# Altium footprint library connector.PcbLib: 49 footprints (part 2 of 4)
Each footprint in its own frame and in the unit in brackets; x right, y up, seen from the top. Pads: shape width x height; smd on the part's side, far side on the other; paste and mask are expansions set on the pad; w line width, h text height; cw(c..) or ccw(c..) is an arc to the next point about the centre after c.
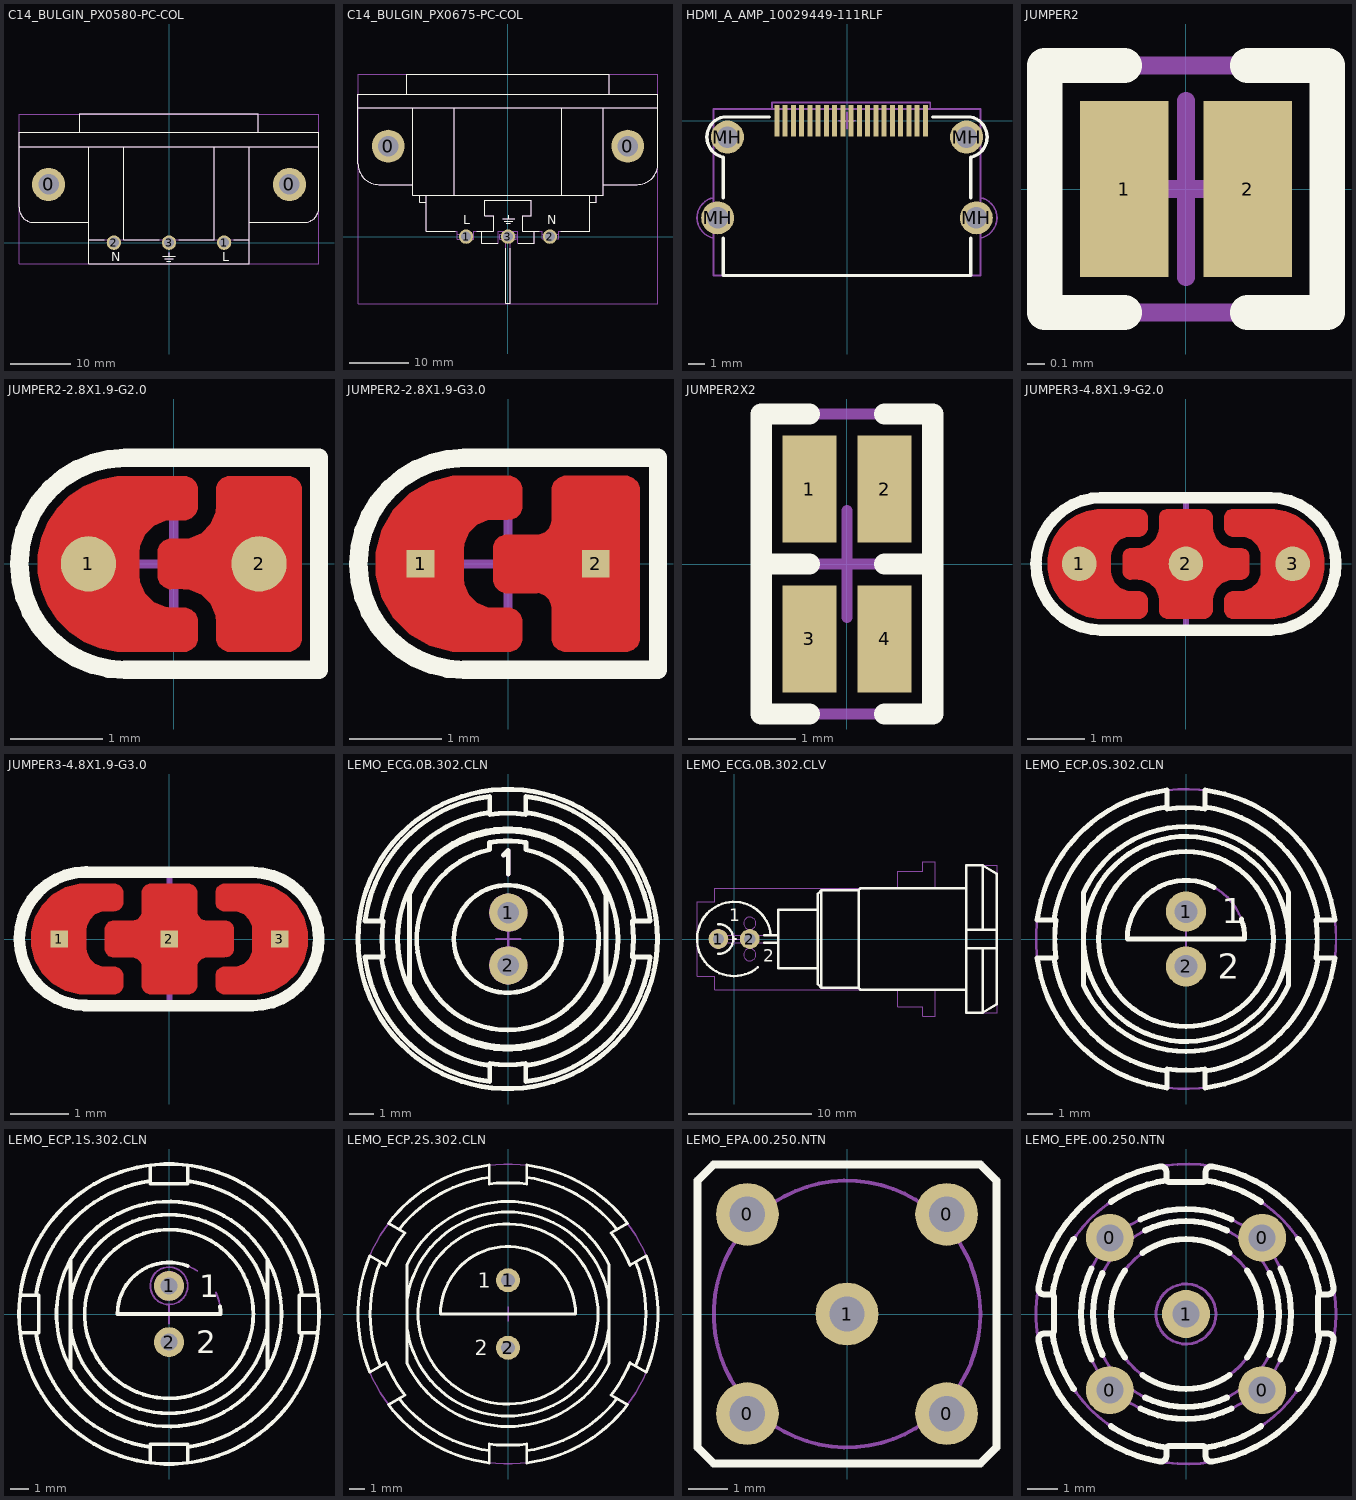
[diagram p1: the footprints below, top view; thin cyan lines are the x and y axes]

## C14_BULGIN_PX0580-PC-COL [mm] "10A 250Vac PC Flange Rear Mount Inlet IEC Connector"
height 32.1
pads (5):
  round 5.5 hole 3.4: 0(-20,9.65) 0(20,9.65)
  round 2.4 hole 1.7: 1(9.14,0) 2(-9.14,0) 3(0,0)
Top Overlay:
  lines w0.2: -24.9,15.95 24.9,15.95 ; -14.785,18.35 -14.785,21.35 14.785,21.35 14.785,18.35 ; -13.3,0.45 -10.727,0.45 ; -13.3,3.35 -22.4,3.35 cw(c-22.4,5.85) -24.9,5.85 -24.9,18.35 24.9,18.35 24.9,5.85 cw(c22.4,5.85) 22.4,3.35 13.3,3.35 ; -13.3,15.95 -13.3,-3.55 13.3,-3.55 13.3,15.95 ; -7.553,0.45 -1.587,0.45 ; -7.539,0.45 -7.539,15.95 ; -1,-2.257 1,-2.257 ; -0.7,-2.657 0.7,-2.657 ; -0.4,-3.057 0.3,-3.057 ; 0,-2.257 0,-1.657 ; 1.587,0.45 7.553,0.45 ; 7.539,0.45 7.539,15.95 ; 10.727,0.45 13.3,0.45
  text "N" at -9.602,-3.075 h1.5
  text "L" at 8.843,-3.075 h1.5
Mechanical 1:
  circle w0.1: c20,9.65 r1.7
  circle w0.1: c-20,9.65 r1.7
  lines w0.1: -24.9,15.95 24.9,15.95 ; -14.785,18.35 -14.785,21.35 14.785,21.35 14.785,18.35 ; -13.3,0.45 13.3,0.45 ; -13.3,3.35 -22.4,3.35 cw(c-22.4,5.85) -24.9,5.85 -24.9,18.35 24.9,18.35 24.9,5.85 cw(c22.4,5.85) 22.4,3.35 13.3,3.35 ; -13.3,15.95 -13.3,-3.55 13.3,-3.55 13.3,15.95 ; -7.539,0.45 -7.539,15.95 ; -1,-2.257 1,-2.257 ; -0.7,-2.657 0.7,-2.657 ; -0.4,-3.057 0.3,-3.057 ; 0,-2.257 0,-1.657 ; 7.539,0.45 7.539,15.95
  text "L" at 8.843,-3.075 h1.5
  text "N" at -9.602,-3.075 h1.5
Mechanical 15:
  lines w0.1: -0.5,0 0.5,0 ; 0,-0.5 0,0.5 ; -24.9,-3.55 24.9,-3.55 24.9,21.35 -24.9,21.35 -24.9,-3.55
3D body "BULGIN_PX0580-PC-COL.stp": height 27.8, standoff -3.6, extent -24.9,-3.55 24.9,21.35

## C14_BULGIN_PX0675-PC-COL [mm] "10A 250Vac PC Flange Rear Mount Outlet IEC Connector"
height 30.4
pads (5):
  round 5.5 hole 3.4: 0(-20,15.1) 0(20,15.1)
  round 2.4 hole 1.7: 1(-7,0) 2(7,0) 3(0,0)
Top Overlay:
  lines w0.2: -25.05,21.5 25.05,21.5 ; -16.975,23.8 -16.95,23.825 -16.95,27.1 16.95,27.1 16.95,23.8 ; -15.9,8.7 -21.55,8.7 cw(c-21.55,12.2) -25.05,12.2 -25.05,23.8 25.05,23.8 25.05,12.2 cw(c21.55,12.2) 21.55,8.7 15.9,8.7 ; -15.9,21.5 -15.9,6.9 15.9,6.9 15.9,21.5 ; -14.775,6.9 -14.775,5.77 -13.65,5.77 ; -13.65,6.9 -13.65,0.9 -8.786,0.9 ; -5.214,0.9 -4.4,0.9 ; -1.67,-1.1 -4.4,-1.1 -4.4,0.9 ; -0.9,3 1.1,3 ; -0.6,2.6 0.8,2.6 ; -0.4,-1.96 -0.4,-11.1 0.4,-11.1 0.4,-1.96 ; -0.3,2.2 0.4,2.2 ; 0.1,3 0.1,3.6 ; 1.67,-1.1 4.4,-1.1 4.4,0.9 ; 5.214,0.9 4.4,0.9 ; 8.786,0.9 13.65,0.9 13.65,6.9 ; 9,6.9 9,21.5 ; 13.65,5.77 14.775,5.77 14.775,6.9 ; -4.4,0.9 -2.5,0.9 -2.5,3.5 -3.9,3.5 -3.9,6.1 3.9,6.1 3.9,3.5 2.5,3.5 2.5,0.9 4.4,0.9 ; -9,6.9 -9,21.5 -9,6.9
  text "L" at -7.47,2.055 h1.5
  text "N" at 6.53,2.055 h1.5
Mechanical 1:
  circle w0.1: c-20,15.1 r1.7
  circle w0.1: c20,15.1 r1.7
  lines w0.1: -25.05,21.5 25.05,21.5 ; -16.95,23.8 -16.95,27.1 16.95,27.1 16.95,23.8 ; -15.9,8.7 -21.55,8.7 cw(c-21.55,12.2) -25.05,12.2 -25.05,23.8 25.05,23.8 25.05,12.2 cw(c21.55,12.2) 21.55,8.7 15.9,8.7 ; -15.9,21.5 -15.9,6.9 15.9,6.9 15.9,21.5 ; -14.775,6.9 -14.775,5.77 -13.65,5.77 ; -13.65,6.9 -13.65,0.9 -8.5,0.9 -8.5,-0.4 -5.7,-0.4 -5.7,0.9 -4.4,0.9 ; -8.5,0.4 -5.7,0.4 ; -0.9,3 1.1,3 ; -0.6,2.6 0.8,2.6 ; -0.4,-0.4 -0.4,-11.1 0.4,-11.1 0.4,-0.4 ; -0.3,2.2 0.4,2.2 ; 0.1,3 0.1,3.6 ; 5.7,0.4 8.5,0.4 ; 9,6.9 9,21.5 ; 13.65,5.77 14.775,5.77 14.775,6.9 ; 13.65,6.9 13.65,0.9 8.5,0.9 8.5,-0.373 5.7,-0.373 5.7,0.9 4.4,0.9 ; -4.4,0.9 -4.4,-1.1 -1.6,-1.1 -1.6,0.9 1.6,0.9 1.6,-1.1 4.4,-1.1 4.4,0.9 ; -4.4,0.9 -2.5,0.9 -2.5,3.5 -3.9,3.5 -3.9,6.1 3.9,6.1 3.9,3.5 2.5,3.5 2.5,0.9 4.4,0.9 ; -9,6.9 -9,21.5 -9,6.9 ; -1.4,-0.4 1.4,-0.4 1.4,0.4 -1.4,0.4 -1.4,-0.4
  text "L" at -7.47,2.055 h1.5
  text "N" at 6.53,2.055 h1.5
Mechanical 15:
  lines w0.1: -0.5,0 0.5,0 ; 0,-0.5 0,0.5 ; -25.05,-11.2 -25.05,27.1 25.05,27.1 25.05,-11.2 -25.05,-11.2
3D body "BULGIN_PX0675-PC-COL.stp": height 30.4, standoff -3.6, extent -25.05,-11.2 25.05,27.1

## HDMI_A_AMP_10029449-111RLF [mm] "HDMI 1.4, Amphenol"
pads (23):
  rect 0.3x1.9 smd mask+0.102: 1(4.75,0) 2(4.25,0) 3(3.75,0) 4(3.25,0) 5(2.75,0) 6(2.25,0) 7(1.75,0) 8(1.25,0) 9(0.75,0) 10(0.25,0) 11(-0.25,0) 12(-0.75,0) 13(-1.25,0) 14(-1.75,0) 15(-2.25,0) 16(-2.75,0) 17(-3.25,0) 18(-3.75,0) 19(-4.25,0)
  round 2 hole 1.3 mask+0.102: MH(-7.85,-5.9) MH(-7.25,-1) MH(7.25,-1) MH(7.85,-5.9)
Top Overlay:
  lines w0.2: -7.505,-2.224 cw(c-7.25,-1) -7.505,0.224 -4.7,0.224 ; -7.5,-7.125 -7.5,-9.4 7.5,-9.4 7.5,-7.125 ; -7.5,-4.675 -7.5,-2.224 ; 5.2,0.224 7.505,0.224 cw(c7.25,-1) 7.505,-2.224 ; 7.5,-4.675 7.5,-2.224
Mechanical 1:
  lines w0.1: -8.1,-9.4 8.1,-9.4 8.1,0.7 -8.1,0.7 -8.1,-9.4
Mechanical 15:
  lines w0.1: -8.1,-7.125 cw(c-7.85,-5.9) -8.1,-4.675 -8.1,-1.925 ; -8.1,-7.122 -8.1,-9.4 8.1,-9.4 8.1,-7.122 ; -8.1,-0.083 -8.1,0.7 -4.55,0.7 -4.55,1.1 5.05,1.1 5.05,0.7 8.1,0.7 8.1,-0.083 ; -8.097,-1.919 cw(c-7.25,-1) -8.097,-0.081 ; -0.5,0 0.5,0 ; 0,-0.5 0,0.5 ; 8.097,-1.919 ccw(c7.25,-1) 8.097,-0.081 ; 8.1,-7.125 ccw(c7.85,-5.9) 8.1,-4.675 8.1,-1.925
3D body "10029449-111RLF v1.step": height 6.28, standoff -1.86, extent -8.1,-9.4 8.1,0.7

## JUMPER2 [mm]
pads (2):
  rect 0.5x1 smd: 1(-0.35,0) 2(0.35,0)
Top Overlay:
  lines w0.2: -0.35,-0.7 -0.8,-0.7 -0.8,0.7 -0.35,0.7 ; 0.35,-0.7 0.8,-0.7 0.8,0.7 0.35,0.7
Mechanical 1:
  lines w0.1: -0.796,-0.7 0.801,-0.7 0.801,0.7 -0.796,0.7 -0.796,-0.7
Mechanical 15:
  lines w0.1: -0.5,0 0.5,0 ; 0,-0.5 0,0.5 ; -0.796,-0.7 -0.796,0.7 0.801,0.7 0.801,-0.7 -0.796,-0.7

## JUMPER2-2.8X1.9-G2.0 [mm] "Pads Solder Jumper for Bound by Solder Drop - Overall dimensions 4.8mmx1.9mm, Gap 0.2mm"
pads (2):
  round 0.6 smd paste-0.3: 1(-0.925,0) 2(0.925,0)
Top Layer:
  region: -0.025,-0.273 0.102,-0.273 0.172,-0.28 0.301,-0.333 0.4,-0.433 0.454,-0.562 0.461,-0.632 0.461,-0.8 0.461,-0.83 0.484,-0.885 0.526,-0.927 0.581,-0.95 0.611,-0.95 1.239,-0.95 1.269,-0.95 1.324,-0.927 1.366,-0.885 1.389,-0.83 1.389,-0.8 1.389,0.8 1.389,0.83 1.366,0.885 1.324,0.927 1.269,0.95 1.239,0.95 0.611,0.95 0.581,0.95 0.526,0.927 0.484,0.885 0.461,0.83 0.461,0.8 0.461,0.632 0.454,0.562 0.4,0.433 0.301,0.333 0.172,0.28 0.102,0.273 -0.025,0.273 -0.055,0.273 -0.11,0.25 -0.152,0.208 -0.175,0.153 -0.175,0.123 -0.175,-0.123 -0.175,-0.153 -0.152,-0.208 -0.11,-0.25 -0.055,-0.273
  region: -0.375,-0.123 -0.375,0.123 -0.368,0.191 -0.316,0.317 -0.219,0.414 -0.093,0.466 -0.025,0.473 0.102,0.473 0.134,0.473 0.192,0.497 0.237,0.542 0.261,0.6 0.261,0.632 0.261,0.8 0.261,0.83 0.238,0.885 0.196,0.927 0.141,0.95 0.111,0.95 -0.525,0.95 -0.619,0.95 -0.802,0.913 -0.975,0.842 -1.131,0.738 -1.263,0.606 -1.367,0.45 -1.438,0.277 -1.475,0.094 -1.475,0 -1.475,-0.094 -1.438,-0.277 -1.367,-0.45 -1.263,-0.606 -1.131,-0.738 -0.975,-0.842 -0.802,-0.913 -0.619,-0.95 -0.525,-0.95 0.111,-0.95 0.141,-0.95 0.196,-0.927 0.238,-0.885 0.261,-0.83 0.261,-0.8 0.261,-0.632 0.261,-0.6 0.237,-0.542 0.192,-0.497 0.134,-0.473 0.102,-0.473 -0.025,-0.473 -0.093,-0.466 -0.219,-0.414 -0.316,-0.317 -0.368,-0.191
Top Overlay:
  lines w0.2: -0.525,-1.15 cw(c-0.525,0) -0.525,1.15 1.575,1.15 1.575,-1.15 -0.525,-1.15
Mechanical 1:
  lines w0.1: -0.528,-1.152 cw(c-0.528,-0.002) -0.528,1.148 1.572,1.148 1.572,-1.152 -0.528,-1.152
Mechanical 15:
  lines w0.1: -0.5,0 0.5,0 ; 0,-0.5 0,0.5 ; -0.525,-1.151 cw(c-0.525,-0.001) -0.525,1.149 1.575,1.149 1.575,-1.151 -0.525,-1.151

## JUMPER2-2.8X1.9-G3.0 [mm] "Pads for Bound by Solder Drop - Gap 0.3mm"
pads (2):
  rect 0.3x0.3 smd paste-0.15: 1(-0.95,0) 2(0.95,0)
Top Layer:
  region: -0.481,-0.954 -0.607,-0.954 -0.849,-0.889 -1.067,-0.763 -1.244,-0.586 -1.37,-0.368 -1.435,-0.126 -1.435,0.126 -1.37,0.368 -1.244,0.586 -1.067,0.763 -0.849,0.889 -0.607,0.954 -0.481,0.954 -0.004,0.954 0.028,0.954 0.086,0.93 0.131,0.885 0.155,0.827 0.155,0.795 0.155,0.636 0.155,0.604 0.131,0.546 0.086,0.501 0.028,0.477 -0.004,0.477 -0.163,0.477 -0.225,0.471 -0.34,0.423 -0.427,0.336 -0.475,0.221 -0.481,0.159 -0.481,-0.159 -0.475,-0.221 -0.427,-0.336 -0.34,-0.423 -0.225,-0.471 -0.163,-0.477 -0.004,-0.477 0.028,-0.477 0.086,-0.501 0.131,-0.546 0.155,-0.604 0.155,-0.636 0.155,-0.795 0.155,-0.827 0.131,-0.885 0.086,-0.93 0.028,-0.954 -0.004,-0.954
  region: 0.473,-0.795 0.473,-0.477 0.47,-0.446 0.446,-0.389 0.402,-0.345 0.345,-0.321 0.314,-0.318 -0.004,-0.318 -0.036,-0.318 -0.094,-0.294 -0.139,-0.249 -0.163,-0.191 -0.163,-0.159 -0.163,0.159 -0.163,0.191 -0.139,0.249 -0.094,0.294 -0.036,0.318 -0.004,0.318 0.314,0.318 0.345,0.321 0.402,0.345 0.446,0.389 0.47,0.446 0.473,0.477 0.473,0.795 0.473,0.827 0.497,0.885 0.542,0.93 0.6,0.954 0.632,0.954 1.268,0.954 1.3,0.954 1.358,0.93 1.403,0.885 1.427,0.827 1.427,0.795 1.427,-0.318 1.427,-0.795 1.427,-0.827 1.403,-0.885 1.358,-0.93 1.3,-0.954 1.268,-0.954 0.632,-0.954 0.6,-0.954 0.542,-0.93 0.497,-0.885 0.473,-0.827
Top Overlay:
  lines w0.2: -0.475,-1.15 cw(c-0.475,0) -0.475,1.15 1.625,1.15 1.625,-1.15 -0.475,-1.15
Top Solder:
  region: -0.481,-0.954 -0.607,-0.954 -0.849,-0.889 -1.067,-0.763 -1.244,-0.586 -1.37,-0.368 -1.435,-0.126 -1.435,0.126 -1.37,0.368 -1.244,0.586 -1.067,0.763 -0.849,0.889 -0.607,0.954 -0.481,0.954 0.424,0.954 0.55,0.954 0.793,0.889 1.01,0.763 1.188,0.586 1.313,0.368 1.378,0.126 1.378,-0.126 1.313,-0.368 1.188,-0.586 1.01,-0.763 0.793,-0.889 0.55,-0.954 0.424,-0.954
Mechanical 1:
  lines w0.1: -0.478,-1.152 cw(c-0.478,-0.002) -0.478,1.148 1.622,1.148 1.622,-1.152 -0.478,-1.152
Mechanical 15:
  lines w0.1: -0.5,0 0.5,0 ; 0,-0.5 0,0.5 ; -0.475,-1.151 cw(c-0.475,-0.001) -0.475,1.149 1.625,1.149 1.625,-1.151 -0.475,-1.151

## JUMPER2X2 [mm]
pads (4):
  rect 0.5x1 smd: 1(-0.35,0.7) 2(0.35,0.7) 3(-0.35,-0.7) 4(0.35,-0.7)
Top Overlay:
  lines w0.2: -0.35,-1.4 -0.8,-1.4 -0.8,0 ; -0.35,1.4 -0.8,1.4 -0.8,0 ; 0.35,-1.4 0.8,-1.4 0.8,0 ; 0.35,1.4 0.8,1.4 0.8,0 ; -0.8,0 -0.35,0 -0.8,0 ; 0.8,0 0.35,0 0.8,0
Mechanical 1:
  lines w0.1: -0.8,0 0.8,0 ; -0.8,-1.4 -0.8,1.4 0.8,1.4 0.8,-1.4 -0.8,-1.4
Mechanical 15:
  lines w0.1: -0.5,0 0.5,0 ; 0,-0.5 0,0.5 ; -0.8,-1.4 -0.8,1.4 0.8,1.4 0.8,-1.4 -0.8,-1.4

## JUMPER3-4.8X1.9-G2.0 [mm] "Pads Solder Jumper for Bound by Solder Drop - Overall dimensions 4.8mmx1.9mm, Gap 0.2mm"
pads (3):
  round 0.6 smd paste-0.3: 1(-1.85,0) 2(0,0) 3(1.85,0)
Top Layer:
  region: 0.664,-0.8 0.664,-0.83 0.687,-0.885 0.729,-0.927 0.784,-0.95 0.814,-0.95 1.45,-0.95 1.544,-0.95 1.727,-0.913 1.9,-0.842 2.056,-0.738 2.188,-0.606 2.292,-0.45 2.363,-0.277 2.4,-0.094 2.4,0 2.4,0.094 2.363,0.277 2.292,0.45 2.188,0.606 2.056,0.738 1.9,0.842 1.727,0.913 1.544,0.95 1.45,0.95 0.814,0.95 0.784,0.95 0.729,0.927 0.687,0.885 0.664,0.83 0.664,0.8 0.664,0.632 0.664,0.6 0.688,0.542 0.733,0.497 0.791,0.473 0.823,0.473 0.95,0.473 1.018,0.466 1.144,0.414 1.241,0.317 1.293,0.191 1.3,0.123 1.3,-0.123 1.293,-0.191 1.241,-0.317 1.144,-0.414 1.018,-0.466 0.95,-0.473 0.823,-0.473 0.791,-0.473 0.733,-0.497 0.688,-0.542 0.664,-0.6 0.664,-0.632
  region: -1.3,-0.123 -1.3,0.123 -1.293,0.191 -1.241,0.317 -1.144,0.414 -1.018,0.466 -0.95,0.473 -0.823,0.473 -0.791,0.473 -0.733,0.497 -0.688,0.542 -0.664,0.6 -0.664,0.632 -0.664,0.8 -0.664,0.83 -0.687,0.885 -0.729,0.927 -0.784,0.95 -0.814,0.95 -1.45,0.95 -1.544,0.95 -1.727,0.913 -1.9,0.842 -2.056,0.738 -2.188,0.606 -2.292,0.45 -2.363,0.277 -2.4,0.094 -2.4,0 -2.4,-0.094 -2.363,-0.277 -2.292,-0.45 -2.188,-0.606 -2.056,-0.738 -1.9,-0.842 -1.727,-0.913 -1.544,-0.95 -1.45,-0.95 -0.814,-0.95 -0.784,-0.95 -0.729,-0.927 -0.687,-0.885 -0.664,-0.83 -0.664,-0.8 -0.664,-0.632 -0.664,-0.6 -0.688,-0.542 -0.733,-0.497 -0.791,-0.473 -0.823,-0.473 -0.95,-0.473 -1.018,-0.466 -1.144,-0.414 -1.241,-0.317 -1.293,-0.191
  region: -0.95,-0.273 -0.823,-0.273 -0.753,-0.28 -0.624,-0.333 -0.524,-0.433 -0.471,-0.562 -0.464,-0.632 -0.464,-0.8 -0.464,-0.83 -0.441,-0.885 -0.399,-0.927 -0.344,-0.95 -0.314,-0.95 0.314,-0.95 0.344,-0.95 0.399,-0.927 0.441,-0.885 0.464,-0.83 0.464,-0.8 0.464,-0.632 0.471,-0.562 0.524,-0.433 0.624,-0.333 0.753,-0.28 0.823,-0.273 0.95,-0.273 0.98,-0.273 1.035,-0.25 1.077,-0.208 1.1,-0.153 1.1,-0.123 1.1,0.123 1.1,0.153 1.077,0.208 1.035,0.25 0.98,0.273 0.95,0.273 0.823,0.273 0.753,0.28 0.624,0.333 0.524,0.433 0.471,0.562 0.464,0.632 0.464,0.8 0.464,0.83 0.441,0.885 0.399,0.927 0.344,0.95 0.314,0.95 -0.314,0.95 -0.344,0.95 -0.399,0.927 -0.441,0.885 -0.464,0.83 -0.464,0.8 -0.464,0.632 -0.471,0.562 -0.524,0.433 -0.624,0.333 -0.753,0.28 -0.823,0.273 -0.95,0.273 -0.98,0.273 -1.035,0.25 -1.077,0.208 -1.1,0.153 -1.1,0.123 -1.1,-0.123 -1.1,-0.153 -1.077,-0.208 -1.035,-0.25 -0.98,-0.273
Top Overlay:
  lines w0.2: -1.475,-1.15 1.475,-1.15 ; -1.475,1.15 1.475,1.15 ; -1.45,-1.15 cw(c-1.45,0) -1.45,1.15 ; 1.45,-1.15 ccw(c1.45,0) 1.45,1.15
Mechanical 1:
  lines w0.1: 0.002,-1.154 0.002,1.146 ; 0.002,-1.154 -1.448,-1.154 cw(c-1.448,-0.004) -1.448,1.146 0.002,1.146 ; 0.002,-1.154 1.452,-1.154 ccw(c1.452,-0.004) 1.452,1.146 0.002,1.146
Mechanical 15:
  lines w0.1: -0.5,0 0.5,0 ; 0,-0.5 0,0.5 ; -1.448,-1.154 cw(c-1.448,-0.004) -1.448,1.146 0.002,1.146 1.452,1.146 cw(c1.452,-0.004) 1.452,-1.154 0.002,-1.154 -1.448,-1.154

## JUMPER3-4.8X1.9-G3.0 [mm] "Pads for Bound by Solder Drop - Equivalent Size 0805 - Gap 0.3mm"
pads (3):
  rect 0.3x0.3 smd paste-0.15: 1(-1.9,0) 2(0,0) 3(1.9,0)
Top Layer:
  region: -1.431,-0.954 -1.557,-0.954 -1.799,-0.889 -2.017,-0.763 -2.194,-0.586 -2.32,-0.368 -2.385,-0.126 -2.385,0.126 -2.32,0.368 -2.194,0.586 -2.017,0.763 -1.799,0.889 -1.557,0.954 -1.431,0.954 -0.954,0.954 -0.922,0.954 -0.864,0.93 -0.819,0.885 -0.795,0.827 -0.795,0.795 -0.795,0.636 -0.795,0.604 -0.819,0.546 -0.864,0.501 -0.922,0.477 -0.954,0.477 -1.113,0.477 -1.175,0.471 -1.29,0.423 -1.377,0.336 -1.425,0.221 -1.431,0.159 -1.431,-0.159 -1.425,-0.221 -1.377,-0.336 -1.29,-0.423 -1.175,-0.471 -1.113,-0.477 -0.954,-0.477 -0.922,-0.477 -0.864,-0.501 -0.819,-0.546 -0.795,-0.604 -0.795,-0.636 -0.795,-0.795 -0.795,-0.827 -0.819,-0.885 -0.864,-0.93 -0.922,-0.954 -0.954,-0.954
  region: 0.795,-0.795 0.795,-0.636 0.795,-0.604 0.819,-0.546 0.864,-0.501 0.922,-0.477 0.954,-0.477 1.113,-0.477 1.175,-0.471 1.29,-0.423 1.377,-0.336 1.425,-0.221 1.431,-0.159 1.431,0.159 1.425,0.221 1.377,0.336 1.29,0.423 1.175,0.471 1.113,0.477 0.954,0.477 0.922,0.477 0.864,0.501 0.819,0.546 0.795,0.604 0.795,0.636 0.795,0.795 0.795,0.827 0.819,0.885 0.864,0.93 0.922,0.954 0.954,0.954 1.431,0.954 1.557,0.954 1.799,0.889 2.017,0.763 2.194,0.586 2.32,0.368 2.385,0.126 2.385,-0.126 2.32,-0.368 2.194,-0.586 2.017,-0.763 1.799,-0.889 1.557,-0.954 1.431,-0.954 0.954,-0.954 0.922,-0.954 0.864,-0.93 0.819,-0.885 0.795,-0.827
  region: -0.477,-0.795 -0.477,-0.477 -0.48,-0.446 -0.504,-0.389 -0.548,-0.345 -0.605,-0.321 -0.636,-0.318 -0.954,-0.318 -0.986,-0.318 -1.044,-0.294 -1.089,-0.249 -1.113,-0.191 -1.113,-0.159 -1.113,0.159 -1.113,0.191 -1.089,0.249 -1.044,0.294 -0.986,0.318 -0.954,0.318 -0.636,0.318 -0.605,0.321 -0.548,0.345 -0.504,0.389 -0.48,0.446 -0.477,0.477 -0.477,0.795 -0.477,0.827 -0.453,0.885 -0.408,0.93 -0.35,0.954 -0.318,0.954 0.318,0.954 0.35,0.954 0.408,0.93 0.453,0.885 0.477,0.827 0.477,0.795 0.477,0.477 0.48,0.446 0.504,0.389 0.548,0.345 0.605,0.321 0.636,0.318 0.954,0.318 0.986,0.318 1.044,0.294 1.089,0.249 1.113,0.191 1.113,0.159 1.113,-0.159 1.113,-0.191 1.089,-0.249 1.044,-0.294 0.986,-0.318 0.954,-0.318 0.636,-0.318 0.605,-0.321 0.548,-0.345 0.504,-0.389 0.48,-0.446 0.477,-0.477 0.477,-0.795 0.477,-0.827 0.453,-0.885 0.408,-0.93 0.35,-0.954 0.318,-0.954 -0.318,-0.954 -0.35,-0.954 -0.408,-0.93 -0.453,-0.885 -0.477,-0.827
Top Overlay:
  lines w0.2: -1.463,-1.145 1.425,-1.151 ccw(c1.425,0) 1.425,1.15 ; -1.437,-1.145 cw(c-1.437,0.005) -1.437,1.155 ; -1.434,1.156 1.425,1.15
Top Solder:
  region: -1.431,-0.954 -1.557,-0.954 -1.799,-0.889 -2.017,-0.763 -2.194,-0.586 -2.32,-0.368 -2.385,-0.126 -2.385,0.126 -2.32,0.368 -2.194,0.586 -2.017,0.763 -1.799,0.889 -1.557,0.954 -1.431,0.954 1.431,0.954 1.557,0.954 1.799,0.889 2.017,0.763 2.194,0.586 2.32,0.368 2.385,0.126 2.385,-0.126 2.32,-0.368 2.194,-0.586 2.017,-0.763 1.799,-0.889 1.557,-0.954 1.431,-0.954
Mechanical 1:
  lines w0.1: -1.448,-1.154 0.002,-1.154 ; -1.438,-1.154 cw(c-1.438,-0.004) -1.438,1.146 0.002,1.146 ; 1.426,-1.154 ccw(c1.426,-0.004) 1.426,1.146 0.002,1.146 ; 1.452,-1.154 0.002,-1.154 ; 0.002,-1.154 0.002,1.146
Mechanical 15:
  lines w0.1: -1.443,-1.149 cw(c-1.443,0.001) -1.443,1.151 0.035,1.151 1.428,1.151 cw(c1.428,0.001) 1.428,-1.149 ; -1.415,-1.149 0.035,-1.149 1.485,-1.149 ; -0.5,0 0.5,0 ; 0,-0.5 0,0.5

## LEMO_ECG.0B.302.CLN [mm] "Size 0B, 2 Female Contacts Straight Receptacle With Two Nut For Panel Mounting"
height 16.4
pads (2):
  round 1.6 hole 0.9: 1(0,1.1) 2(0,-1.1)
Top Overlay:
  circle w0.2: c-0.025,0 r4.6
  circle w0.2: c-0.025,0 r6.25
  circle w0.2: c-0.025,0 r2.25
  lines w0.2: -5.308,-0.75 ccw(c-0.025,0) -0.775,-5.283 ; -5.308,0.75 cw(c-0.025,0) -0.775,5.283 ; -0.2,3.5 0,3.7 0,2.7 ; 0.725,-5.283 ccw(c-0.025,0) 5.258,-0.75 ; 0.725,5.283 cw(c0.031,0.056) 5.258,0.75 ; -4.125,-1.855 ccw(c-0.025,0) 4.075,-1.855 ; -4.125,-1.855 ccw(c-0.025,0) 4.075,-1.855 ; -4.125,-1.855 -4.125,1.855 cw(c-0.025,0) 4.075,1.855 4.075,-1.855 ; -5.978,-0.75 ccw(c-0.025,0) -0.775,-5.953 -0.775,-5.196 ccw(c-0.025,0) 0.725,-5.196 0.725,-5.953 ccw(c-0.025,0) 5.928,-0.75 5.171,-0.75 ccw(c-0.025,0) 5.171,0.75 5.928,0.75 ccw(c-0.025,0) 0.725,5.953 0.725,5.196 ccw(c-0.025,0) -0.775,5.196 -0.775,5.953 ccw(c-0.025,0) -5.978,0.75 -5.221,0.75 ccw(c-0.025,0) -5.221,-0.75 -5.978,-0.75 ; -0.785,3.723 ccw(c-0.025,0) 0.735,3.723 0.735,4.029 ccw(c-0.025,0) -0.785,4.029 -0.785,3.723
Mechanical 1:
  circle w0.1: c-0.025,0 r2.25
  circle w0.1: c-0.025,0 r4.6
  circle w0.1: c0,-1.1 r0.75
  circle w0.1: c0,-1.1 r0.55
  circle w0.1: c-0.025,0 r6.25
  circle w0.1: c0,1.1 r0.75
  circle w0.1: c0,1.1 r0.55
  lines w0.1: -5.308,-0.75 ccw(c-0.025,0) -0.775,-5.283 ; -5.308,0.75 cw(c-0.025,0) -0.775,5.283 ; 0.725,-5.283 ccw(c-0.025,0) 5.258,-0.75 ; 0.725,5.283 cw(c0.031,0.056) 5.258,0.75 ; -4.125,-1.855 ccw(c-0.025,0) 4.075,-1.855 ; -4.125,-1.855 ccw(c-0.025,0) 4.075,-1.855 ; -4.125,-1.855 -4.125,1.855 cw(c-0.025,0) 4.075,1.855 4.075,-1.855 ; -5.978,-0.75 ccw(c-0.025,0) -0.775,-5.953 -0.775,-5.196 ccw(c-0.025,0) 0.725,-5.196 0.725,-5.953 ccw(c-0.025,0) 5.928,-0.75 5.171,-0.75 ccw(c-0.025,0) 5.171,0.75 5.928,0.75 ccw(c-0.025,0) 0.725,5.953 0.725,5.196 ccw(c-0.025,0) -0.775,5.196 -0.775,5.953 ccw(c-0.025,0) -5.978,0.75 -5.221,0.75 ccw(c-0.025,0) -5.221,-0.75 -5.978,-0.75 ; -0.785,3.723 ccw(c-0.025,0) 0.735,3.723 0.735,4.029 ccw(c-0.025,0) -0.785,4.029 -0.785,3.723
  lines w0.2: -0.2,3.5 0,3.7 0,2.7
Mechanical 15:
  circle w0.1: c0,0 r6.25
  lines w0.1: -0.5,0 0,0 ; 0,-0.5 0,0 ; 0,0.5 0,0 ; 0.5,0 0,0
3D body "LEMO_ECG.0B.302.CLN_Part1.stp": height 16.5, standoff -3, extent -4.125,-4.482 4.075,4.483
3D body "LEMO_ECG.0B.302.CLN_Part4.stp": height 10.3, standoff 8.29, extent -5.525,-6.199 5.475,6.199
3D body "LEMO_ECG.0B.302.CLN_Part3.stp": height 11.3, standoff 10.3, extent -6.275,-6.25 6.225,6.25
3D body "LEMO_ECG.0B.302.CLN_Part2.stp": height 16.1, standoff 13.6, extent -5.978,-5.953 5.928,5.953

## LEMO_ECG.0B.302.CLV [mm] "Size 0B, 2 Female Contacts Elbow Receptacle (90°) With Two Nut For Panel Mounting"
height 15.5
pads (2):
  round 1.6 hole 0.9: 1(-1.27,0) 2(1.27,0)
Top Overlay:
  lines w0.2: -1.27,-1.2 ccw(c-1.27,0) -1.27,1.2 ; 0,0 0.125,0 ; 1.923,-2.303 cw(c0,0) 2.985,0.3 ; 2.432,-0.3 3.57,-0.3 ; 2.432,0.3 3.57,0.3 ; 6.77,-2.36 3.57,-2.36 3.57,2.36 6.77,2.36 ; 18.77,-4.1 10.22,-4.1 10.07,-3.95 ; 18.77,-0.75 21.27,-0.75 ; 18.77,0.75 21.27,0.75 ; 18.77,4.1 10.22,4.1 10.07,3.95 ; 20.12,-0.75 20.12,-5.953 ; 20.12,0.75 20.12,5.953 ; 7.07,-3.95 7.07,3.95 ; 7.07,-3.95 10.07,-3.95 ; 7.07,-3.95 6.77,-3.65 6.77,3.65 7.07,3.95 ; 7.07,3.95 10.07,3.95 ; 10.07,-3.95 10.07,3.95 ; 20.12,-5.953 18.77,-5.953 18.77,5.953 20.12,5.953 ; 20.12,-5.953 21.27,-5.283 21.27,5.283 20.12,5.953
  text "1" at -0.4,1.425 h1
  text "2" at 2.352,-1.842 h1
Mechanical 1:
  circle w0.1: c1.27,-1.27 r0.498
  circle w0.1: c1.27,1.27 r0.498
  lines w0.1: -1.27,-1.2 ccw(c-1.27,0) -1.27,1.2 ; -0.583,-0.3 cw(c-1.27,0) -0.583,0.3 ; 0,0 0.125,0 ; 0.872,-0.3 ccw(c1.27,0) 1.668,-0.3 ; 0.872,0.3 cw(c1.27,0) 1.668,0.3 ; 1.923,-2.303 cw(c0,0) 2.985,0.3 ; 3.57,-0.3 -1.27,-0.3 cw(c-1.27,0) -1.27,0.3 3.57,0.3 ; 6.77,-2.36 3.57,-2.36 3.57,2.36 6.77,2.36 ; 18.77,-4.1 10.22,-4.1 10.07,-3.95 ; 18.77,-0.75 21.27,-0.75 ; 18.77,0.75 21.27,0.75 ; 18.77,4.1 10.22,4.1 10.07,3.95 ; 20.12,-0.75 20.12,-5.953 ; 20.12,0.75 20.12,5.953 ; 7.07,-3.95 10.07,-3.95 ; 7.07,-3.95 7.07,3.95 ; 7.07,-3.95 6.77,-3.65 6.77,3.65 7.07,3.95 ; 7.07,3.95 10.07,3.95 ; 10.07,-3.95 10.07,3.95 ; 20.12,-5.953 21.27,-5.283 21.27,5.283 20.12,5.953 ; 20.12,-5.953 18.77,-5.953 18.77,5.953 20.12,5.953
  text "2" at 2.352,-1.842 h1
  text "1" at -0.4,1.425 h1
Mechanical 15:
  lines w0.1: -3,-3 -1.575,-3 -1.575,-4.1 13.25,-4.1 13.25,-5.5 15.269,-5.5 15.269,-6.25 16.275,-6.25 16.275,-4.1 18.775,-4.1 18.775,-5.95 21.275,-5.95 21.275,5.95 18.775,5.95 18.775,4.1 16.275,4.1 16.275,6.25 15.269,6.25 15.269,5.5 13.25,5.5 13.25,4.1 -1.575,4.1 -1.575,3 -2.994,3 -2.994,-3 ; -0.5,0 0,0 ; 0,-0.5 0,0 ; 0,0.5 0,0 ; 0.5,0 0,0
3D body "LEMO_ECG.0B.302.CLV_Part13.stp": height -33.7, standoff -38.7, extent -1.57,-0.3 1.57,0.3
3D body "LEMO_ECG.0B.302.CLV_Part12.stp": height -28.7, standoff -33.7, extent -1.57,-0.3 1.57,0.3
3D body "LEMO_ECG.0B.302.CLV_Part11.stp": height -23.7, standoff -28.7, extent -1.57,-0.3 1.57,0.3
3D body "LEMO_ECG.0B.302.CLV_Part10.stp": height -18.7, standoff -23.7, extent -1.57,-0.3 1.57,0.3
3D body "LEMO_ECG.0B.302.CLV_Part9.stp": height -13.7, standoff -18.7, extent -1.57,-0.3 1.57,0.3
3D body "LEMO_ECG.0B.302.CLV_Part8.stp": height -8.7, standoff -13.7, extent -1.57,-0.3 1.57,0.3
3D body "LEMO_ECG.0B.302.CLV_Part7.stp": height -8.7, standoff -13.7, extent -1.57,-0.3 1.57,0.3
3D body "LEMO_ECG.0B.302.CLV_Part6.stp": height -3.7, standoff -8.7, extent -1.57,-0.3 1.57,0.3
3D body "LEMO_ECG.0B.302.CLV_Part5.stp": height 2.3, standoff 0, extent -3,-3 3,3
3D body "LEMO_ECG.0B.302.CLV_Part4.stp": height 12.45, standoff 0.05, extent 13.265,-5.5 15.265,5.5
3D body "LEMO_ECG.0B.302.CLV_Part3.stp": height 12.5, standoff 0, extent 15.27,-6.25 16.27,6.25
3D body "LEMO_ECG.0B.302.CLV_Part2.stp": height 12.2, standoff 0.3, extent 18.77,-5.953 21.27,5.953
3D body "LEMO_ECG.0B.302.CLV_Part1.stp": height 10.73, standoff -3.7, extent -1.57,-4.1 21.27,4.1

## LEMO_ECP.0S.302.CLN [mm] "Size 0S, Fixed Receptacle with 2 Nuts, Straight Contacts 1 Female + 1 Male  (Hermaphroditic Keying)"
height 15
pads (2):
  round 1.6 hole 0.9: 1(0,1.1) 2(0,-1.1)
Top Overlay:
  circle w0.2: c0,0 r3.5
  circle w0.2: c0,0 r4.1
  lines w0.2: -5.283,-0.75 ccw(c0,0) -0.75,-5.283 ; -5.283,0.75 cw(c0,0) -0.75,5.283 ; 0.75,-5.283 ccw(c0,0) 5.283,-0.75 ; 0.75,5.283 cw(c0,0) 5.283,0.75 ; 1.114,2.069 ccw(c0,0) -2.35,0 2.35,0 ccw(c0,0) 2.213,0.79 ; -5.953,-0.75 ccw(c0,0) -0.75,-5.953 -0.75,-5.196 ccw(c0,0) 0.75,-5.196 0.75,-5.953 ccw(c0,0) 5.953,-0.75 5.196,-0.75 ccw(c0,0) 5.196,0.75 5.953,0.75 ccw(c0,0) 0.75,5.953 0.75,5.196 ccw(c0,0) -0.75,5.196 -0.75,5.953 ccw(c0,0) -5.953,0.75 -5.196,0.75 ccw(c0,0) -5.196,-0.75 -5.953,-0.75 ; -4.1,-1.855 ccw(c0,0) 4.1,-1.855 4.1,1.855 ccw(c0,0) -4.1,1.855 -4.1,-1.855
  text "2" at 1.27,-1.587 h1
  text "1" at 1.429,0.635 h1
Mechanical 1:
  circle w0.1: c0,-1.1 r0.35
  circle w0.4: c0,-1.1 r0.2
  circle w0.1: c0,1.1 r0.35
  circle w0.1: c0,0 r3.5
  circle w0.1: c0,0 r4.1
  lines w0.1: -5.283,-0.75 ccw(c0,0) -0.75,-5.283 ; -5.283,0.75 cw(c0,0) -0.75,5.283 ; 0.75,-5.283 ccw(c0,0) 5.283,-0.75 ; 0.75,5.283 cw(c0,0) 5.283,0.75 ; -5.953,-0.75 ccw(c0,0) -0.75,-5.953 -0.75,-5.196 ccw(c0,0) 0.75,-5.196 0.75,-5.953 ccw(c0,0) 5.953,-0.75 5.196,-0.75 ccw(c0,0) 5.196,0.75 5.953,0.75 ccw(c0,0) 0.75,5.953 0.75,5.196 ccw(c0,0) -0.75,5.196 -0.75,5.953 ccw(c0,0) -5.953,0.75 -5.196,0.75 ccw(c0,0) -5.196,-0.75 -5.953,-0.75 ; -4.1,-1.855 ccw(c0,0) 4.1,-1.855 4.1,1.855 ccw(c0,0) -4.1,1.855 -4.1,-1.855 ; -2.35,0 cw(c0,0) 2.35,0 -2.35,0
  text "2" at 1.27,-1.587 h1
  text "1" at 1.429,0.635 h1
Mechanical 15:
  circle w0.1: c0,0 r6
  lines w0.1: -0.5,0 0,0 ; 0,-0.5 0,0 ; 0,0.5 0,0 ; 0.5,0 0,0
3D body "LEMO_ECP.0S.302.CLN_Part1.stp": height 15, standoff -3.2, extent -4.1,-4.463 4.1,4.464
3D body "LEMO_ECP.0S.302.CLN_Part2.stp": height 14.6, standoff 12.1, extent -5.953,-5.953 5.953,5.953
3D body "LEMO_ECP.0S.302.CLN_Part4.stp": height 9.6, standoff 8.6, extent -6.25,-6.25 6.25,6.25
3D body "LEMO_ECP.0S.302.CLN_Part3.stp": height 8.58, standoff 6.58, extent -5.5,-6.199 5.5,6.199

## LEMO_ECP.1S.302.CLN [mm] "Size 1S, Fixed Receptacle with 2 Nuts, Straight Contacts 1 Female + 1 Male  (Hermaphroditic Keying)"
height 19.5
pads (2):
  round 1.6 hole 0.9: 1(0,1.5) 2(0,-1.5)
Top Overlay:
  circle w0.2: c0,0 r8
  circle w0.2: c0,0 r6
  circle w0.2: c0,0 r4.5
  lines w0.2: -7.937,-1 -6.95,-1 -6.95,1 -7.937,1 ; -7.093,-1 ccw(c0,0) -1,-7.093 ; -7.093,1 cw(c0,0) -1,7.093 ; -5.25,-2.905 -5.25,2.905 ; -5.25,-0.726 ccw(c0,0) 5.25,-0.726 ; -5.25,0.726 cw(c0,0) 5.25,0.726 ; -1,-7.937 -1,-6.95 1,-6.95 1,-7.937 ; -1,7.937 -1,6.95 1,6.95 1,7.937 ; 1,-7.093 ccw(c0,0) 7.093,-1 ; 1,2.562 ccw(c0,0) -2.75,0 2.75,0 ccw(c0,0) 2.721,0.4 ; 1,7.093 cw(c0,0) 7.093,1 ; 5.25,-2.905 5.25,2.905 ; 7.937,-1 6.95,-1 6.95,1 7.937,1
  text "1" at 1.6,0.9 h1.2
  text "2" at 1.459,-2.1 h1.2
Mechanical 1:
  circle w0.1: c0,0 r8
  circle w0.1: c0,0 r6
  circle w0.1: c0,1.5 r0.75
  circle w0.1: c0,1.5 r1
  circle w0.1: c0,-1.5 r0.5
  circle w0.1: c0,0 r4.5
  lines w0.1: -7.937,-1 -6.95,-1 -6.95,1 -7.937,1 ; -7.093,-1 ccw(c0,0) -1,-7.093 ; -7.093,1 cw(c0,0) -1,7.093 ; -5.25,-2.905 -5.25,2.905 ; -5.25,-0.726 ccw(c0,0) 5.25,-0.726 ; -5.25,0.726 cw(c0,0) 5.25,0.726 ; -1,-7.937 -1,-6.95 1,-6.95 1,-7.937 ; -1,7.937 -1,6.95 1,6.95 1,7.937 ; 1,-7.093 ccw(c0,0) 7.093,-1 ; 1,7.093 cw(c0,0) 7.093,1 ; 1.507,2.3 ccw(c0,0) -2.75,0 2.75,0 ccw(c0,0) 2.5,1.146 ; 5.25,-2.905 5.25,2.905 ; 7.937,-1 6.95,-1 6.95,1 7.937,1
  text "2" at 1.459,-2.1 h1.2
  text "1" at 1.6,0.9 h1.2
Mechanical 15:
  circle w0.1: c0,0 r8
  lines w0.1: -0.5,0 0,0 ; 0,-0.5 0,0 ; 0,0.5 0,0 ; 0.5,0 0,0
3D body "LEMO_ECP.1S.302.CLN_Part4.stp": height 12.8, standoff 11.8, extent -8,-8 8,8
3D body "LEMO_ECP.1S.302.CLN_Part3.stp": height 11.8, standoff 9.3, extent -7,-7.899 7,7.899
3D body "LEMO_ECP.1S.302.CLN_Part2.stp": height 18.8, standoff 15.3, extent -7.937,-7.937 7.937,7.937
3D body "LEMO_ECP.1S.302.CLN_Part1.stp": height 19.5, standoff -3, extent -5.25,-6 5.25,6

## LEMO_ECP.2S.302.CLN [mm] "Size 2S, Fixed Receptacle with 2 Nuts, Straight Contact 1 Female + 1 Male  (Hermaphroditic Keying)"
height 20
pads (2):
  round 1.6 hole 0.9: 1(0,2.25) 2(0,-2.25)
Top Overlay:
  circle w0.2: c0,0 r6
  lines w0.2: -8.511,-3.471 cw(c0,0) -8.511,3.471 ; -7.261,-5.636 ccw(c0,0) -1.25,-9.106 ; -7.261,5.636 cw(c0,0) -1.25,9.106 ; -6.75,-0.823 ccw(c0,0) 6.75,-0.823 ; -6.75,0.823 cw(c0,0) 6.75,0.823 ; 1.25,-9.106 ccw(c0,0) 7.261,-5.636 ; 1.25,9.106 cw(c0,0) 7.261,5.636 ; 8.511,-3.471 ccw(c0,0) 8.511,3.471 ; -9.217,-3.878 cw(c0,0) -9.217,3.878 -8.125,3.248 cw(c0,0) -6.875,5.413 -7.967,6.043 cw(c0,0) -1.25,9.922 -1.25,8.66 cw(c0,0) 1.25,8.66 1.25,9.922 cw(c0,0) 7.967,6.043 6.875,5.413 cw(c0,0) 8.125,3.248 9.217,3.878 cw(c0,0) 9.217,-3.878 8.125,-3.248 cw(c0,0) 6.875,-5.413 7.967,-6.043 cw(c0,0) 1.25,-9.922 1.25,-8.66 cw(c0,0) -1.25,-8.66 -1.25,-9.922 cw(c0,0) -7.967,-6.043 -6.875,-5.413 cw(c0,0) -8.125,-3.248 -9.217,-3.878 ; -6.75,-3.269 ccw(c0,0) 6.75,-3.269 6.75,3.269 ccw(c0,0) -6.75,3.269 -6.75,-3.269 ; -4.5,0 cw(c0,0) 4.5,0 -4.5,0
  text "1" at -2,1.75 h1
  text "2" at -2.2,-2.75 h1
Mechanical 1:
  circle w0.1: c0,2.25 r0.7
  circle w0.1: c0,0 r6
  circle w0.7: c0,-2.25 r0.35
  circle w0.1: c0,-2.25 r0.7
  lines w0.1: -8.511,-3.471 cw(c0,0) -8.511,3.471 ; -7.261,-5.636 ccw(c0,0) -1.25,-9.106 ; -7.261,5.636 cw(c0,0) -1.25,9.106 ; -6.75,-0.823 ccw(c0,0) 6.75,-0.823 ; -6.75,0.823 cw(c0,0) 6.75,0.823 ; 1.25,-9.106 ccw(c0,0) 7.261,-5.636 ; 1.25,9.106 cw(c0,0) 7.261,5.636 ; 8.511,-3.471 ccw(c0,0) 8.511,3.471 ; -9.217,-3.878 cw(c0,0) -9.217,3.878 -8.125,3.248 cw(c0,0) -6.875,5.413 -7.967,6.043 cw(c0,0) -1.25,9.922 -1.25,8.66 cw(c0,0) 1.25,8.66 1.25,9.922 cw(c0,0) 7.967,6.043 6.875,5.413 cw(c0,0) 8.125,3.248 9.217,3.878 cw(c0,0) 9.217,-3.878 8.125,-3.248 cw(c0,0) 6.875,-5.413 7.967,-6.043 cw(c0,0) 1.25,-9.922 1.25,-8.66 cw(c0,0) -1.25,-8.66 -1.25,-9.922 cw(c0,0) -7.967,-6.043 -6.875,-5.413 cw(c0,0) -8.125,-3.248 -9.217,-3.878 ; -6.75,-3.269 ccw(c0,0) 6.75,-3.269 6.75,3.269 ccw(c0,0) -6.75,3.269 -6.75,-3.269 ; -4.5,0 cw(c0,0) 4.5,0 -4.5,0
  text "2" at -2.2,-2.75 h1
  text "1" at -2,1.75 h1
Mechanical 15:
  circle w0.1: c0,0 r10
  lines w0.1: -0.5,0 0,0 ; 0,-0.5 0,0 ; 0,0.5 0,0 ; 0.5,0 0,0
3D body "LEMO_ECP.2S.302.CLN_Part4.stp": height 13.3, standoff 12.1, extent -9.75,-9.737 9.75,9.75
3D body "LEMO_ECP.2S.302.CLN_Part3.stp": height 12.05, standoff 9.35, extent -8.5,-9.599 8.5,9.599
3D body "LEMO_ECP.2S.302.CLN_Part2.stp": height 19.3, standoff 15.8, extent -10,-9.921 10,9.922
3D body "LEMO_ECP.2S.302.CLN_Part1.stp": height 20, standoff -3, extent -6.75,-7.5 6.75,7.5

## LEMO_EPA.00.250.NTN [mm] "50 Ohm size 00 Coaxial Straight socket"
height 14
pads (5):
  round 1.6 hole 0.9: 0(-2.54,-2.54) 0(-2.54,2.54) 0(2.54,-2.54) 0(2.54,2.54) 1(0,0)
Top Overlay:
  lines w0.2: -3.81,-3.4 -3.81,3.4 -3.4,3.81 3.4,3.81 3.81,3.4 3.81,-3.4 3.4,-3.81 -3.4,-3.81 -3.81,-3.4
Mechanical 1:
  circle w0.1: c0,0 r3.4
  lines w0.1: -3.81,-3.39 -3.39,-3.81 3.39,-3.81 3.81,-3.39 3.81,3.4 3.4,3.81 -3.39,3.81 -3.81,3.39 -3.81,-3.39
Mechanical 15:
  lines w0.1: -0.5,0 0,0 ; 0,-0.5 0,0 ; 0,0.5 0,0 ; 0.5,0 0,0 ; -3.825,-3.4 -3.4,-3.825 3.4,-3.825 3.825,-3.4 3.825,3.375 3.375,3.825 -3.388,3.825 -3.825,3.388 -3.825,-3.4
3D body "LEMO_EPA.00.250.NTN.stp": height 14, standoff -3, extent -3.5,-3.5 3.5,3.5

## LEMO_EPE.00.250.NTN [mm] "50 Ohm size 00 Coaxial Straight Socket with Two Nuts"
height 14
pads (5):
  round 1.6 hole 0.9: 0(-2.54,-2.54) 0(-2.54,2.54) 0(2.54,-2.54) 0(2.54,2.54) 1(0,0)
Top Overlay:
  lines w0.2: -4.454,-0.639 ccw(c0,0) -3.739,-2.503 ; -4.454,0.639 cw(c0,0) -3.739,2.503 ; -3.157,-1.511 cw(c0,0) -3.157,1.511 ; -2.783,-1.365 cw(c0,0) -2.783,1.365 ; -2.503,-3.739 ccw(c0,0) -0.639,-4.454 ; -2.503,3.739 cw(c0,0) -0.639,4.454 ; -2.036,-1.451 cw(c0,0) -2.036,1.451 ; -1.511,-3.157 ccw(c0,0) 1.511,-3.157 ; -1.511,3.157 cw(c0,0) 1.511,3.157 ; -1.451,-2.036 ccw(c0,0) 1.451,-2.036 ; -1.451,2.036 cw(c0,0) 1.451,2.036 ; -1.365,-2.783 ccw(c0,0) 1.365,-2.783 ; -1.365,2.783 cw(c0,0) 1.365,2.783 ; 0.639,-4.454 ccw(c0,0) 2.503,-3.739 ; 0.639,4.454 cw(c0,0) 2.503,3.739 ; 2.036,-1.451 ccw(c0,0) 2.036,1.451 ; 2.783,-1.365 ccw(c0,0) 2.783,1.365 ; 3.157,-1.511 ccw(c0,0) 3.157,1.511 ; 3.739,-2.503 ccw(c0,0) 4.454,-0.639 ; 3.739,2.503 cw(c0,0) 4.454,0.639 ; -4.921,-0.885 cw(c-4.724,-0.85) -4.724,-0.65 -4.5,-0.65 ccw(c-4.5,-0.55) -4.4,-0.55 -4.4,0.55 ccw(c-4.5,0.55) -4.5,0.65 -4.724,0.65 cw(c-4.724,0.85) -4.921,0.885 cw(c0,0) -0.885,4.921 cw(c-0.85,4.724) -0.65,4.724 -0.65,4.5 ccw(c-0.55,4.5) -0.55,4.4 0.55,4.4 ccw(c0.55,4.5) 0.65,4.5 0.65,4.724 cw(c0.85,4.724) 0.885,4.921 cw(c0,0) 4.921,0.885 cw(c4.724,0.85) 4.724,0.65 4.5,0.65 ccw(c4.5,0.55) 4.4,0.55 4.4,-0.55 ccw(c4.5,-0.55) 4.5,-0.65 4.724,-0.65 cw(c4.724,-0.85) 4.921,-0.885 cw(c0,0) 0.885,-4.921 cw(c0.85,-4.724) 0.65,-4.724 0.65,-4.5 ccw(c0.55,-4.5) 0.55,-4.4 -0.55,-4.4 ccw(c-0.55,-4.5) -0.65,-4.5 -0.65,-4.724 cw(c-0.85,-4.724) -0.885,-4.921 cw(c0,0) -4.921,-0.885
Mechanical 1:
  circle w0.1: c0,0 r3.5
  circle w0.1: c0,0 r3.1
  circle w0.1: c0,0 r2.5
  circle w0.1: c0,0 r0.5
  circle w0.1: c0,0 r1
  lines w0.1: -4.454,-0.639 ccw(c0,0) -0.639,-4.454 ; -4.454,0.639 cw(c0,0) -0.639,4.454 ; 0.639,-4.454 ccw(c0,0) 4.454,-0.639 ; 0.639,4.454 cw(c0,0) 4.454,0.639 ; -4.921,-0.885 ccw(c0,0) -0.885,-4.921 ccw(c-0.85,-4.724) -0.65,-4.724 -0.65,-4.5 cw(c-0.55,-4.5) -0.55,-4.4 0.55,-4.4 cw(c0.55,-4.5) 0.65,-4.5 0.65,-4.724 ccw(c0.85,-4.724) 0.885,-4.921 ccw(c0,0) 4.921,-0.885 ccw(c4.724,-0.85) 4.724,-0.65 4.5,-0.65 cw(c4.5,-0.55) 4.4,-0.55 4.4,0.55 cw(c4.5,0.55) 4.5,0.65 4.724,0.65 ccw(c4.724,0.85) 4.921,0.885 ccw(c0,0) 0.885,4.921 ccw(c0.85,4.724) 0.65,4.724 0.65,4.5 cw(c0.55,4.5) 0.55,4.4 -0.55,4.4 cw(c-0.55,4.5) -0.65,4.5 -0.65,4.724 ccw(c-0.85,4.724) -0.885,4.921 ccw(c0,0) -4.921,0.885 ccw(c-4.724,0.85) -4.724,0.65 -4.5,0.65 cw(c-4.5,0.55) -4.4,0.55 -4.4,-0.55 cw(c-4.5,-0.55) -4.5,-0.65 -4.724,-0.65 ccw(c-4.724,-0.85) -4.921,-0.885
Mechanical 15:
  circle w0.1: c0,0 r5
  lines w0.1: -0.5,0 0,0 ; 0,-0.5 0,0 ; 0,0.5 0,0 ; 0.5,0 0,0
3D body "LEMO_EPE.00.250.NTN_part3.stp": height 14.5, standoff 12, extent -4.924,-4.924 4.924,4.924
3D body "LEMO_EPE.00.250.NTN_part2.stp": height 10, standoff 8, extent -4.5,-5.1 4.5,5.1
3D body "LEMO_EPE.00.250.NTN_part1.stp": height 14, standoff -3, extent -3.5,-3.5 3.5,3.5